# Altium footprint library Test_Point_Pcb.PcbLib: 1 footprints
Each footprint in its own frame and in the unit in brackets; x right, y up, seen from the top. Pads: shape width x height; smd on the part's side, far side on the other; paste and mask are expansions set on the pad; w line width, h text height; cw(c..) or ccw(c..) is an arc to the next point about the centre after c.
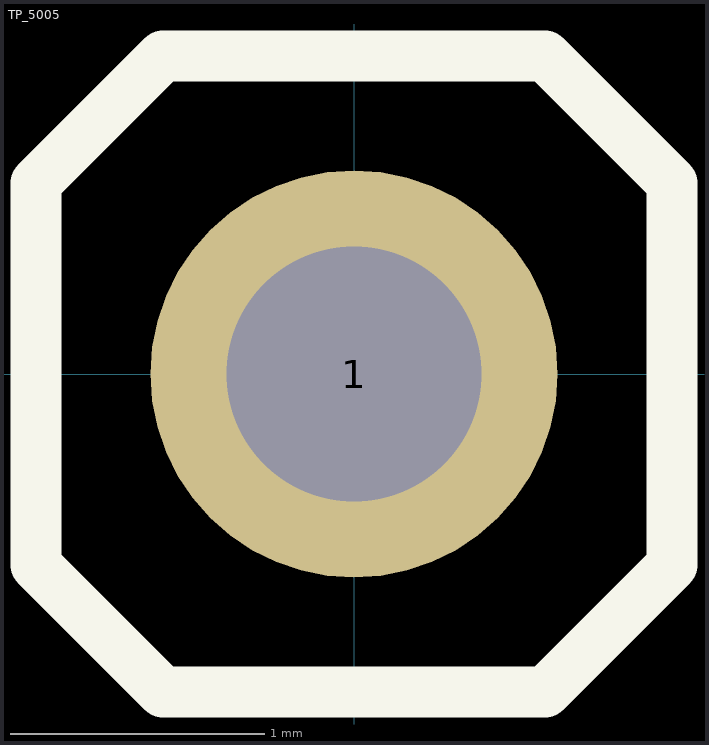
[diagram p0: the footprint, top view; thin cyan lines are the x and y axes]

## TP_5005 [mm]
pads (1):
  round 1.6 hole 1 unplated: 1(0,0)
Top Overlay:
  lines w0.2: -1.25,-0.75 -1.25,0.75 -0.75,1.25 0.75,1.25 1.25,0.75 1.25,-0.75 0.75,-1.25 0,-1.25 -0.75,-1.25 -1.25,-0.75
3D body "TEST POINT BLU Keystone 5117.step": height 4.88, standoff -3.07, extent -1.27,-1.261 1.27,1.261